# Altium schematic symbol library BBCMP-P10.Schlib: 1 symbol
Pins are listed as number, name and electrical type; pins without a type are passive.

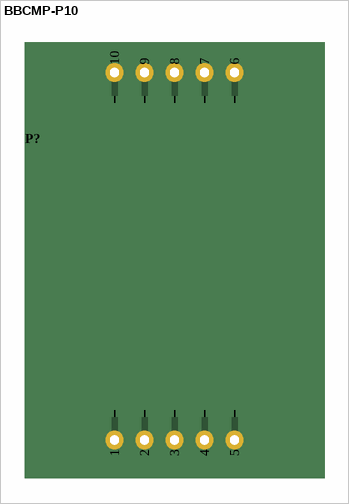
[diagram p0: symbol BBCMP-P10]

## BBCMP-P10
designator P?  (value not drawn)  (no BOM)
pins: 1, 2, 3, 4, 5, 6, 7, 8, 9, 10